# Altium footprint library PcbLib1.PcbLib: 10 footprints
Each footprint in its own frame and in the unit in brackets; x right, y up, seen from the top. Pads: shape width x height; smd on the part's side, far side on the other; paste and mask are expansions set on the pad; w line width, h text height; cw(c..) or ccw(c..) is an arc to the next point about the centre after c.
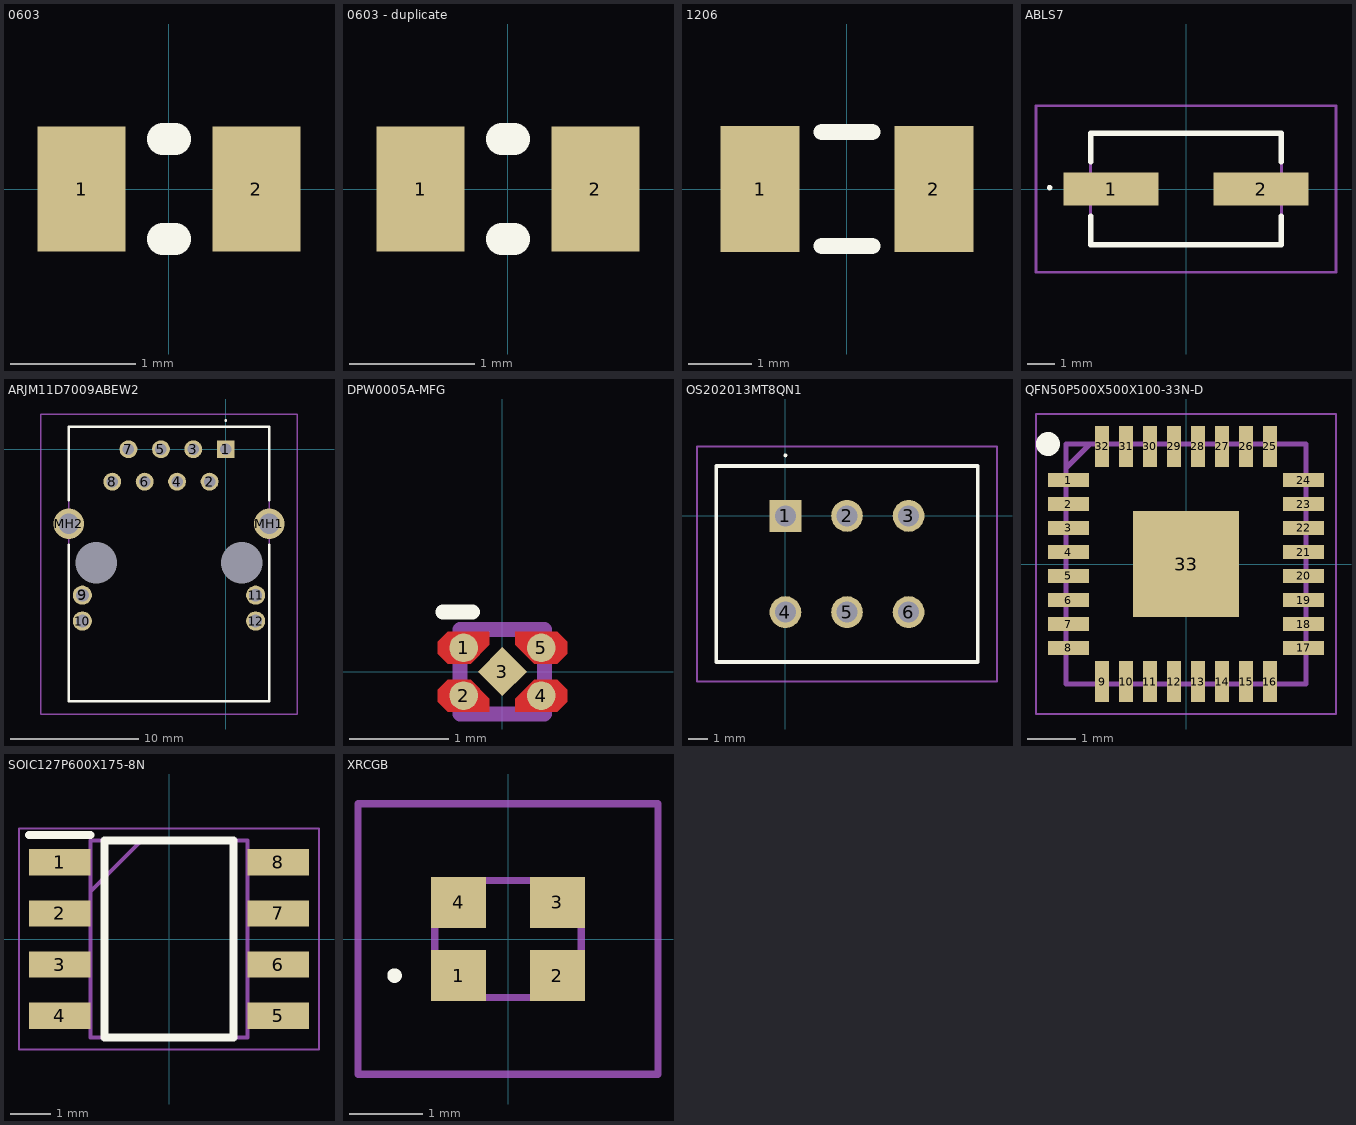
[diagram p0: the footprints below, top view; thin cyan lines are the x and y axes]

## 0603 [mm]
pads (2):
  rect 0.7x1 smd: 1(-0.7,0) 2(0.7,0)
Top Overlay:
  lines w0.254: -0.05,-0.4 0.05,-0.4 ; -0.05,0.4 0.05,0.4
3D body "User Library-res0603-1.step": height 0.4, standoff 0, extent -0.8,-0.4 0.8,0.4

## 0603 - duplicate [mm]
pads (2):
  rect 0.7x1 smd: 1(-0.7,0) 2(0.7,0)
Top Overlay:
  lines w0.254: -0.05,-0.4 0.05,-0.4 ; -0.05,0.4 0.05,0.4
3D body "User Library-res0603-1.step": height 0.4, standoff 0, extent -0.8,-0.4 0.8,0.4

## 1206 [mm]
pads (2):
  rect 1.25x2 smd: 1(-1.375,0) 2(1.375,0)
Top Overlay:
  lines w0.254: -0.4,-0.9 0.4,-0.9 ; -0.4,0.9 0.4,0.9
3D body "User Library-R1206-1.step": height 0.55, standoff 0, extent -1.8,-0.8 1.8,0.8

## ABLS7 [mm]
pads (2):
  rect 3.5x1.2 smd: 1(-2.75,0) 2(2.75,0)
Top Overlay:
  lines w0.1: -5,0 cw(c-5,0.05) -5,0.1 cw(c-5,0.05) -5,0
  lines w0.2: -3.5,-1 -3.5,-2.05 3.5,-2.05 3.5,-1 ; -3.5,1 -3.5,2.05 3.5,2.05 3.5,1
Mechanical 13:
  lines w0.1: -3.5,-2.05 -3.5,2.05 3.5,2.05 3.5,-2.05 -3.5,-2.05
Mechanical 15:
  lines w0.1: -5.5,-3.05 -5.5,3.05 5.5,3.05 5.5,-3.05 -5.5,-3.05
3D body "ABLS7M-16.000MHZ-B-2-T.stp": height 1.9, standoff 0, extent -3.8,-2.05 3.8,2.05

## ARJM11D7009ABEW2 [mm]
pads (16):
  rect 1.4x1.4 hole 0.9: 1(0,0)
  round 1.4 hole 0.9: 2(-1.27,-2.54) 3(-2.54,0) 4(-3.81,-2.54) 5(-5.08,0) 6(-6.35,-2.54) 7(-7.62,0) 8(-8.89,-2.54)
  round 1.5 hole 1: 9(-11.23,-11.43) 10(-11.23,-13.46) 11(2.34,-11.43) 12(2.34,-13.46)
  round 2.4 hole 1.6: MH1(3.405,-5.84) MH2(-12.295,-5.84)
  round 1.625 hole 3.25 unplated: ""(-10.16,-8.89) ""(1.27,-8.89)
Top Overlay:
  lines w0.1: 0,2.2 ccw(c0,2.25) 0,2.3 ccw(c0,2.25) 0,2.2
  lines w0.2: -12.295,-7.5 -12.295,-19.74 3.405,-19.74 3.405,-7.5 ; -12.295,-4 -12.295,1.76 3.405,1.76 3.405,-4
Mechanical 13:
  lines w0.1: -12.295,-19.74 3.405,-19.74 3.405,1.76 -12.295,1.76 -12.295,-19.74
Mechanical 15:
  lines w0.1: -14.495,-20.74 5.605,-20.74 5.605,2.76 -14.495,2.76 -14.495,-20.74
3D body "ARJM11D7-009-AB-EW2.stp": height 12.78, standoff -4.62, extent -12.43,-19.565 3.55,2.085

## DPW0005A-MFG [mm]
pads (5):
  round 0.288 smd paste-0.131 mask-0.127: 1(-0.39,0.24) 2(-0.39,-0.24) 4(0.39,-0.24) 5(0.39,0.24)
  rect 0.35x0.35 smd rot 135 paste-0.162 mask-0.165: 3(0,0)
Top Layer:
  region: 0.65,-0.18 0.65,-0.3 0.55,-0.4 0.13,-0.4 0.13,-0.27 0.32,-0.08 0.55,-0.08
  region: -0.65,-0.18 -0.65,-0.3 -0.55,-0.4 -0.13,-0.4 -0.13,-0.27 -0.32,-0.08 -0.55,-0.08
  region: 0.65,0.18 0.65,0.3 0.55,0.4 0.13,0.4 0.13,0.27 0.32,0.08 0.55,0.08
  region: -0.65,0.18 -0.65,0.3 -0.55,0.4 -0.13,0.4 -0.13,0.27 -0.32,0.08 -0.55,0.08
Top Overlay:
  lines w0.15: -0.6,0.6 -0.3,0.6
Top Paste:
  region: -0.6,-0.18 -0.6,-0.3 -0.55,-0.35 -0.18,-0.35 -0.18,-0.29 -0.34,-0.13 -0.55,-0.13
  region: 0.6,-0.18 0.6,-0.3 0.55,-0.35 0.18,-0.35 0.18,-0.29 0.34,-0.13 0.55,-0.13
  region: 0.6,0.18 0.6,0.3 0.55,0.35 0.18,0.35 0.18,0.29 0.34,0.13 0.55,0.13
  region: -0.6,0.18 -0.6,0.3 -0.55,0.35 -0.18,0.35 -0.18,0.29 -0.34,0.13 -0.55,0.13
  region: 0.134,0.035 0.135,-0.035 0.035,-0.134 -0.035,-0.134 -0.134,-0.035 -0.134,0.035 -0.035,0.134 0.035,0.134
Top Solder:
  region: -0.6,-0.18 -0.6,-0.3 -0.55,-0.35 -0.18,-0.35 -0.18,-0.29 -0.34,-0.13 -0.55,-0.13
  region: 0.6,-0.18 0.6,-0.3 0.55,-0.35 0.18,-0.35 0.18,-0.29 0.34,-0.13 0.55,-0.13
  region: 0.6,0.18 0.6,0.3 0.55,0.35 0.18,0.35 0.18,0.29 0.34,0.13 0.55,0.13
  region: -0.6,0.18 -0.6,0.3 -0.55,0.35 -0.18,0.35 -0.18,0.29 -0.34,0.13 -0.55,0.13
  region: -0.035,0.141 0.035,0.142 0.141,0.035 0.141,-0.035 0.035,-0.141 -0.035,-0.141 -0.141,-0.035 -0.141,0.035
Mechanical 13:
  lines w0.15: -0.425,-0.425 -0.425,0.425 0.425,0.425 0.425,-0.425 -0.425,-0.425
3D body "TMP110D0IDPWR.stp": height 0.4, standoff 0, extent -0.402,-0.402 0.402,0.402

## OS202013MT8QN1 [mm]
pads (6):
  rect 1.65x1.65 hole 1.1: 1(0,0)
  round 1.65 hole 1.1: 2(3.2,0) 3(6.4,0) 4(0,-5) 5(3.2,-5) 6(6.4,-5)
Top Overlay:
  lines w0.1: 0,3.1 ccw(c0,3.15) 0,3.2 ccw(c0,3.15) 0,3.1
  lines w0.2: -3.6,-7.6 10,-7.6 10,2.6 -3.6,2.6 -3.6,-7.6
Mechanical 13:
  lines w0.1: -3.6,-7.6 10,-7.6 10,2.6 -3.6,2.6 -3.6,-7.6
Mechanical 15:
  lines w0.1: -4.6,-8.6 11,-8.6 11,3.6 -4.6,3.6 -4.6,-8.6
3D body "OS202013MT8QN1.stp": height 11.1, standoff -5, extent -3.6,-7.6 10,2.6

## QFN50P500X500X100-33N-D [mm]
pads (33):
  rect 0.85x0.3 smd: 1(-2.45,1.75) 2(-2.45,1.25) 3(-2.45,0.75) 4(-2.45,0.25) 5(-2.45,-0.25) 6(-2.45,-0.75) 7(-2.45,-1.25) 8(-2.45,-1.75) 17(2.45,-1.75) 18(2.45,-1.25) 19(2.45,-0.75) 20(2.45,-0.25) 21(2.45,0.25) 22(2.45,0.75) 23(2.45,1.25) 24(2.45,1.75)
  rect 0.3x0.85 smd: 9(-1.75,-2.45) 10(-1.25,-2.45) 11(-0.75,-2.45) 12(-0.25,-2.45) 13(0.25,-2.45) 14(0.75,-2.45) 15(1.25,-2.45) 16(1.75,-2.45) 25(1.75,2.45) 26(1.25,2.45) 27(0.75,2.45) 28(0.25,2.45) 29(-0.25,2.45) 30(-0.75,2.45) 31(-1.25,2.45) 32(-1.75,2.45)
  rect 2.2x2.2 smd: 33(0,0)
Top Overlay:
  circle w0.25: c-2.875,2.5 r0.125
Mechanical 13:
  lines w0.1: -2.5,2 -2,2.5 ; -2.5,-2.5 2.5,-2.5 2.5,2.5 -2.5,2.5 -2.5,-2.5
Mechanical 15:
  lines w0.05: -3.125,-3.125 3.125,-3.125 3.125,3.125 -3.125,3.125 -3.125,-3.125
3D body "DP83826ERHBR.stp": height 1, standoff 0, extent -2.5,-2.5 2.5,2.5

## SOIC127P600X175-8N [mm]
pads (8):
  rect 1.525x0.65 smd: 1(-2.712,1.905) 2(-2.712,0.635) 3(-2.712,-0.635) 4(-2.712,-1.905) 5(2.712,-1.905) 6(2.712,-0.635) 7(2.712,0.635) 8(2.712,1.905)
Top Overlay:
  lines w0.2: -3.475,2.58 -1.95,2.58 ; -1.6,-2.45 -1.6,2.45 1.6,2.45 1.6,-2.45 -1.6,-2.45
Mechanical 13:
  lines w0.1: -1.95,1.18 -0.68,2.45 ; -1.95,-2.45 -1.95,2.45 1.95,2.45 1.95,-2.45 -1.95,-2.45
Mechanical 15:
  lines w0.05: -3.725,-2.75 -3.725,2.75 3.725,2.75 3.725,-2.75 -3.725,-2.75
3D body "NE555DR.stp": height 1.75, standoff 0, extent -3,-2.45 3,2.45

## XRCGB [mm]
pads (4):
  rect 0.75x0.7 smd: 1(-0.675,-0.5) 2(0.675,-0.5) 3(0.675,0.5) 4(-0.675,0.5)
Top Overlay:
  lines w0.1: -1.6,-0.5 ccw(c-1.55,-0.5) -1.5,-0.5 ccw(c-1.55,-0.5) -1.6,-0.5
Mechanical 13:
  lines w0.1: -1,-0.8 1,-0.8 1,0.8 -1,0.8 -1,-0.8
Mechanical 15:
  lines w0.1: -2.05,-1.85 2.05,-1.85 2.05,1.85 -2.05,1.85 -2.05,-1.85
3D body "XRCGB25M000F3A01R0.stp": height 0.65, standoff 0, extent -1,-0.8 1,0.8